# EAGLE library part AS-ITM-00006 (library tinycircuits)
MOSFET 2P-CH 20V 430MA SOT-563
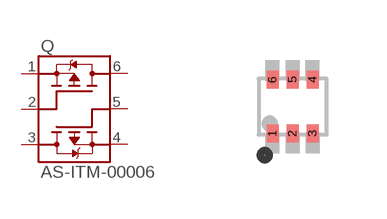
[diagram p0: symbol with the pads of SOT-563-6; footprint SOT-563-6]

Designator prefix Q

## AS-ITM-00006 (PARTNO: AS-ITM-00006; VALUE: NTZD3152P)  [SOT-563-6]
1  S1  pas
2  G1  pas
3  D2  pas
4  S2  pas
5  G2  pas
6  D1  pas

## Footprint SOT-563-6 (pad centres in mm)
Small Outline Transistor; 6 leads Reflow soldering
smd 0.3 x 0.45: 1 -0.5,-0.674; 2 0,-0.674; 3 0.5,-0.674; 4 0.5,0.674; 5 0,0.674; 6 -0.5,0.674